# EAGLE library part 3221-10-0100-00 (library idc_2x5)
Idc Box Header .050" 10pos
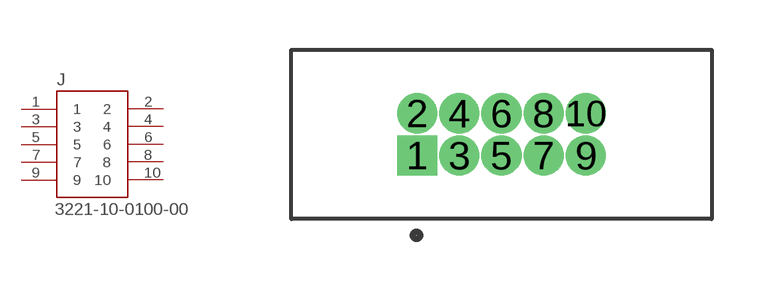
[diagram p0: symbol with the pads of CNC_3221-10-0100-00; footprint CNC_3221-10-0100-00]

Designator prefix J

## 3221-10-0100-00 (Availability: Unavailable; Description: Idc Box Header .050 10pos; MF: CNC Tech; MP: 3221-10-0100-00; Package: None; Price: None)  [CNC_3221-10-0100-00]
1  1  pas
2  2  pas
3  3  pas
4  4  pas
5  5  pas
6  6  pas
7  7  pas
8  8  pas
9  9  pas
10  10  pas

## Footprint CNC_3221-10-0100-00 (pad centres in mm)
drill 0.7 pad 1.1 square: 1 -2.54,-0.635
drill 0.7 pad 1.1: 2 -2.54,0.635; 3 -1.27,-0.635; 4 -1.27,0.635; 5 0,-0.635; 6 0,0.635; 7 1.27,-0.635; 8 1.27,0.635; 9 2.54,-0.635; 10 2.54,0.635